# EAGLE library part ARDUINO_CONN (library solidlib)
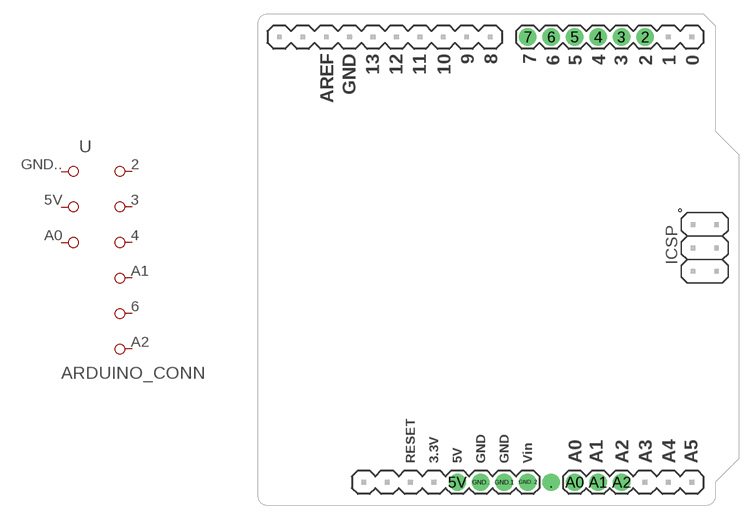
[diagram p0: symbol with the pads of ARDUINO_UNO; footprint ARDUINO_UNO]

Designator prefix -

## ARDUINO_CONN  [ARDUINO_UNO]
2  D2  pas
3  D3  pas
4  D4  pas
5V  5V  pas
6  D6  pas
A0  A0  pas
A1  D5  pas
A2  D7  pas
GND..  GND  pas

## Footprint ARDUINO_UNO (pad centres in mm)
Footprint for representing an Arduino Uno board in an EAGLE schematic. Created by Dave Young for Element14. More EAGLE documentation at: http://www.element14.com/community/community/knode/cadsoft_eagle
drill 1.016 pad 1.88: 2 58.42,50.8; 3 55.88,50.8; 4 53.34,50.8; 5 50.8,50.8; 5V 38.1,2.54; 6 48.26,50.8; 7 45.72,50.8; . 48.26,2.54; A0 50.8,2.54; A1 53.34,2.54; A2 55.88,2.54; GND.1 43.18,2.54; GND.. 40.64,2.54; GND..2 45.72,2.54